# EAGLE library part CRUMB128_V4 (library chip45_EagleLib_090813)
Crumb128 V4.0 OEM module with USB and RS485 for rapid application development based on Atmel's AVR processors.
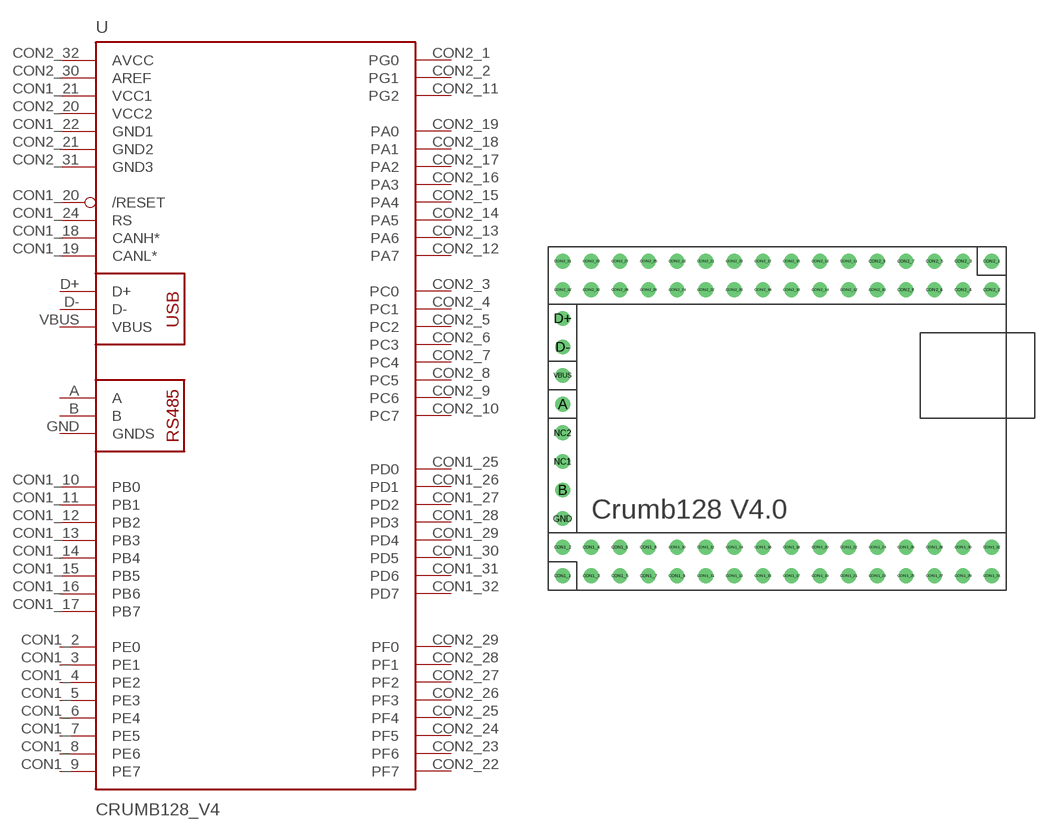
[diagram p12: symbol with the pads of CRUMB128_V4; footprint CRUMB128_V4]

Designator prefix -

## CRUMB128_V4 (EEPROM: 4 kB; FLASH: 128 kB; PERIPHERALS: CP2102 USB-UART converter, mini USB B 5pin connector, 75ALS176 RS285 transceiver, status LED and tiny reset button; PROCESSOR: ATmega128; RAM: 4 kB), CRUMB128_V4_ATMEGA2561 (EEPROM: 4 kB; FLASH: 256 kB; PERIPHERALS: CP2102 USB-UART converter, mini USB B 5pin connector, 75ALS176 RS285 transceiver, status LED and tiny reset button; PROCESSOR: ATmega2561; RAM: 8 kB), CRUMB128_V4_CAN (EEPROM: 4 kB; FLASH: 128 kB; PERIPHERALS: CP2102 USB-UART converter, mini USB B 5pin connector, 75ALS176 RS285 transceiver, PCA82C251 CAN transceiver, status LED and tiny reset button; PROCESSOR: AT90CAN128; RAM: 4 kB)  [CRUMB128_V4]
A  A
B  B
CON1_2  PE0
CON1_3  PE1
CON1_4  PE2
CON1_5  PE3
CON1_6  PE4
CON1_7  PE5
CON1_8  PE6
CON1_9  PE7
CON1_10  PB0
CON1_11  PB1
CON1_12  PB2
CON1_13  PB3
CON1_14  PB4
CON1_15  PB5
CON1_16  PB6
CON1_17  PB7
CON1_18  CANH*
CON1_19  CANL*
CON1_20  /RESET
CON1_21  VCC1  pwr
CON1_22  GND1  pwr
CON1_24  RS
CON1_25  PD0
CON1_26  PD1
CON1_27  PD2
CON1_28  PD3
CON1_29  PD4
CON1_30  PD5
CON1_31  PD6
CON1_32  PD7
CON2_1  PG0
CON2_2  PG1
CON2_3  PC0
CON2_4  PC1
CON2_5  PC2
CON2_6  PC3
CON2_7  PC4
CON2_8  PC5
CON2_9  PC6
CON2_10  PC7
CON2_11  PG2
CON2_12  PA7
CON2_13  PA6
CON2_14  PA5
CON2_15  PA4
CON2_16  PA3
CON2_17  PA2
CON2_18  PA1
CON2_19  PA0
CON2_20  VCC2  pwr
CON2_21  GND2  pwr
CON2_22  PF7
CON2_23  PF6
CON2_24  PF5
CON2_25  PF4
CON2_26  PF3
CON2_27  PF2
CON2_28  PF1
CON2_29  PF0
CON2_30  AREF  in
CON2_31  GND3  pwr
CON2_32  AVCC  nc
D+  D+
D-  D-
GND  GNDS
VBUS  VBUS

## Footprint CRUMB128_V4 (pad centres in mm)
Crumb128 V4.0 ATmega128 OEM microcontroller module with CP2102 USB-UART converter, RS485 transceiver, 32768Hz watch crystal, HC49 XTAL crystal, ISP header and all controller signals on expansion headers. CAN controller and transceiver as option.
drill 0.8 round: A -19.05,1.27; B -19.05,-6.35; CON1_1 -19.05,-13.97; CON1_2 -19.05,-11.43; CON1_3 -16.51,-13.97; CON1_4 -16.51,-11.43; CON1_5 -13.97,-13.97; CON1_6 -13.97,-11.43; CON1_7 -11.43,-13.97; CON1_8 -11.43,-11.43; CON1_9 -8.89,-13.97; CON1_10 -8.89,-11.43; CON1_11 -6.35,-13.97; CON1_12 -6.35,-11.43; CON1_13 -3.81,-13.97; CON1_14 -3.81,-11.43; CON1_15 -1.27,-13.97; CON1_16 -1.27,-11.43; CON1_17 1.27,-13.97; CON1_18 1.27,-11.43; CON1_19 3.81,-13.97; CON1_20 3.81,-11.43; CON1_21 6.35,-13.97; CON1_22 6.35,-11.43; CON1_23 8.89,-13.97; CON1_24 8.89,-11.43; CON1_25 11.43,-13.97; CON1_26 11.43,-11.43; CON1_27 13.97,-13.97; CON1_28 13.97,-11.43; CON1_29 16.51,-13.97; CON1_30 16.51,-11.43; CON1_31 19.05,-13.97; CON1_32 19.05,-11.43; CON2_1 19.05,13.97; CON2_2 19.05,11.43; CON2_3 16.51,13.97; CON2_4 16.51,11.43; CON2_5 13.97,13.97; CON2_6 13.97,11.43; CON2_7 11.43,13.97; CON2_8 11.43,11.43; CON2_9 8.89,13.97; CON2_10 8.89,11.43; CON2_11 6.35,13.97; CON2_12 6.35,11.43; CON2_13 3.81,13.97; CON2_14 3.81,11.43; CON2_15 1.27,13.97; CON2_16 1.27,11.43; CON2_17 -1.27,13.97; CON2_18 -1.27,11.43; CON2_19 -3.81,13.97; CON2_20 -3.81,11.43; CON2_21 -6.35,13.97; CON2_22 -6.35,11.43; CON2_23 -8.89,13.97; CON2_24 -8.89,11.43; CON2_25 -11.43,13.97; CON2_26 -11.43,11.43; CON2_27 -13.97,13.97; CON2_28 -13.97,11.43; CON2_29 -16.51,13.97; CON2_30 -16.51,11.43; CON2_31 -19.05,13.97; CON2_32 -19.05,11.43; D+ -19.05,8.89; D- -19.05,6.35; GND -19.05,-8.89; NC1 -19.05,-3.81; NC2 -19.05,-1.27; VBUS -19.05,3.81